# EAGLE library part 79107-30_S (library con-molex-milli-grid)
RECEPTACAL
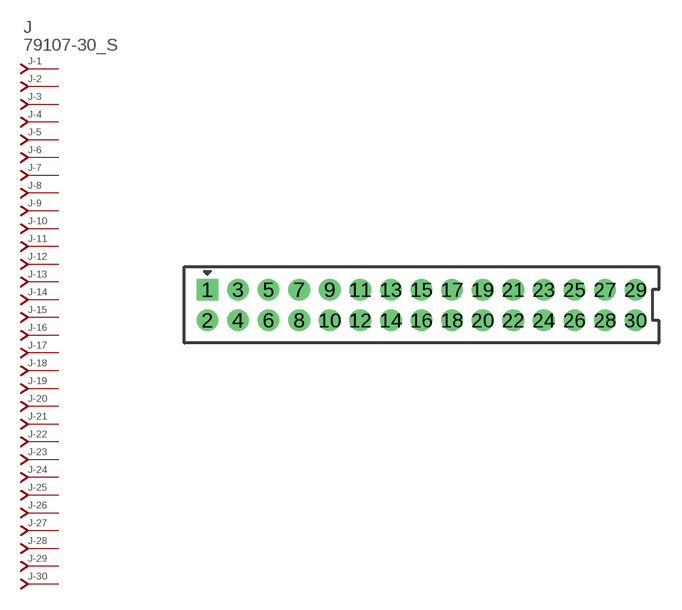
[diagram p246: symbol with the pads of 79107-30; footprint 79107-30]

Designator prefix J; gates -1=J-NV -2=J-N -3=J-N -4=J-N -5=J-N -6=J-N -7=J-N -8=J-N -9=J-N -10=J-N -11=J-N -12=J-N -13=J-N -14=J-N -15=J-N -16=J-N -17=J-N -18=J-N -19=J-N -20=J-N -21=J-N -22=J-N -23=J-N -24=J-N -25=J-N -26=J-N -27=J-N -28=J-N -29=J-N -30=J-N

## 79107-30_S  [79107-30]
1  -1:J  pas
2  -2:J  pas
3  -3:J  pas
4  -4:J  pas
5  -5:J  pas
6  -6:J  pas
7  -7:J  pas
8  -8:J  pas
9  -9:J  pas
10  -10:J  pas
11  -11:J  pas
12  -12:J  pas
13  -13:J  pas
14  -14:J  pas
15  -15:J  pas
16  -16:J  pas
17  -17:J  pas
18  -18:J  pas
19  -19:J  pas
20  -20:J  pas
21  -21:J  pas
22  -22:J  pas
23  -23:J  pas
24  -24:J  pas
25  -25:J  pas
26  -26:J  pas
27  -27:J  pas
28  -28:J  pas
29  -29:J  pas
30  -30:J  pas

## Footprint 79107-30 (pad centres in mm)
RECEPTACAL Dual Row, Vertical, Through-Hole
drill 0.914 square: 1 -14,1
drill 0.914: 2 -14,-1; 3 -12,1; 4 -12,-1; 5 -10,1; 6 -10,-1; 7 -8,1; 8 -8,-1; 9 -6,1; 10 -6,-1; 11 -4,1; 12 -4,-1; 13 -2,1; 14 -2,-1; 15 0,1; 16 0,-1; 17 2,1; 18 2,-1; 19 4,1; 20 4,-1; 21 6,1; 22 6,-1; 23 8,1; 24 8,-1; 25 10,1; 26 10,-1; 27 12,1; 28 12,-1; 29 14,1; 30 14,-1